# EAGLE library part MCP1253-ADJI/MS (library WM_Parts)
Low Noise, Positive-Regulated Charge Pump
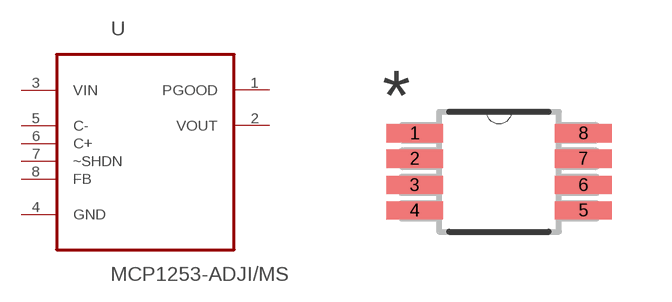
[diagram p2: symbol with the pads of SOP65P490X118-8N; footprint SOP65P490X118-8N]

Designator prefix -

## MCP1253-ADJI/MS (MPN: MCP1253-ADJI/MS; OC_FARNELL: 1332068; OC_NEWARK: 03H5059; PACKAGE: SOP-8; SUPPLIER: Microchip)  [SOP65P490X118-8N]
1  PGOOD  out
2  VOUT  out
3  VIN  pwr
4  GND  pas
5  C-  pas
6  C+  pas
7  ~SHDN  in
8  FB  in

## Footprint SOP65P490X118-8N (pad centres in mm)
smd 1.422 x 0.457: 1 -2.108,0.965; 2 -2.108,0.33; 3 -2.108,-0.33; 4 -2.108,-0.965; 5 2.108,-0.965; 6 2.108,-0.33; 7 2.108,0.33; 8 2.108,0.965